# EAGLE library part SN74HC4066PWR (library newUstar)
Quad bilateral ANALOG SWITCH
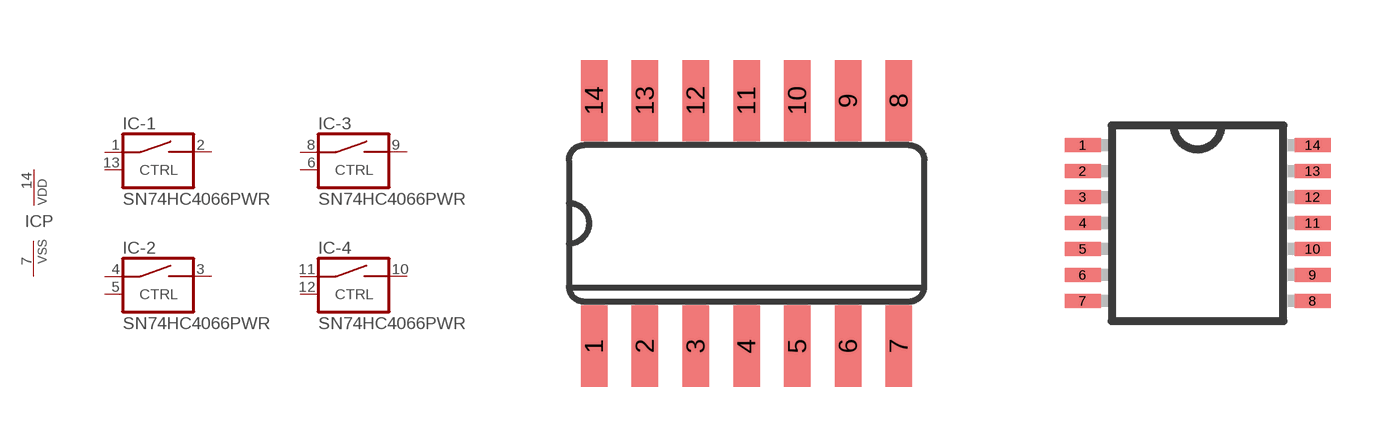
[diagram p5: symbol with the pads of SO14; footprints SO14, TSSOP14]

Designator prefix IC; gates -1=4066 -2=4066 -3=4066 -4=4066 P=PWRN

## SN74HC4066PWRD  [SO14]
1  -1:A  hiz
2  -1:B  hiz
3  -2:B  hiz
4  -2:A  hiz
5  -2:CTRL  in
6  -3:CTRL  in
7  P:VSS  pwr
8  -3:A  hiz
9  -3:B  hiz
10  -4:B  hiz
11  -4:A  hiz
12  -4:CTRL  in
13  -1:CTRL  in
14  P:VDD  pwr

## SN74HC4066PWRTSSOP (DIGIKEY: 296-8330-1-ND)  [TSSOP14]
Pads as for SO14

## Footprint SO14 (pad centres in mm)
Small Outline package 150 mil
smd 0.66 x 2.032: 1 -3.81,-3.073; 2 -2.54,-3.073; 3 -1.27,-3.073; 4 0,-3.073; 5 1.27,-3.073; 6 2.54,-3.073; 7 3.81,-3.073; 8 3.81,3.073; 9 2.54,3.073; 10 1.27,3.073; 11 0,3.073; 12 -1.27,3.073; 13 -2.54,3.073; 14 -3.81,3.073

## Footprint TSSOP14 (pad centres in mm)
14-Lead Thin Shrink Small Outline Package [TSSOP] Source: Analog Devices .. 780914713ADD8704_0.pdf
smd 0.9 x 0.35: 1 -2.875,1.95; 2 -2.875,1.3; 3 -2.875,0.65; 4 -2.875,0; 5 -2.875,-0.65; 6 -2.875,-1.3; 7 -2.875,-1.95; 8 2.875,-1.95; 9 2.875,-1.3; 10 2.875,-0.65; 11 2.875,0; 12 2.875,0.65; 13 2.875,1.3; 14 2.875,1.95